# Altium footprint library PcbLib1.PcbLib: 38 footprints (part 1 of 3)
Each footprint in its own frame and in the unit in brackets; x right, y up, seen from the top. Pads: shape width x height; smd on the part's side, far side on the other; paste and mask are expansions set on the pad; w line width, h text height; cw(c..) or ccw(c..) is an arc to the next point about the centre after c.
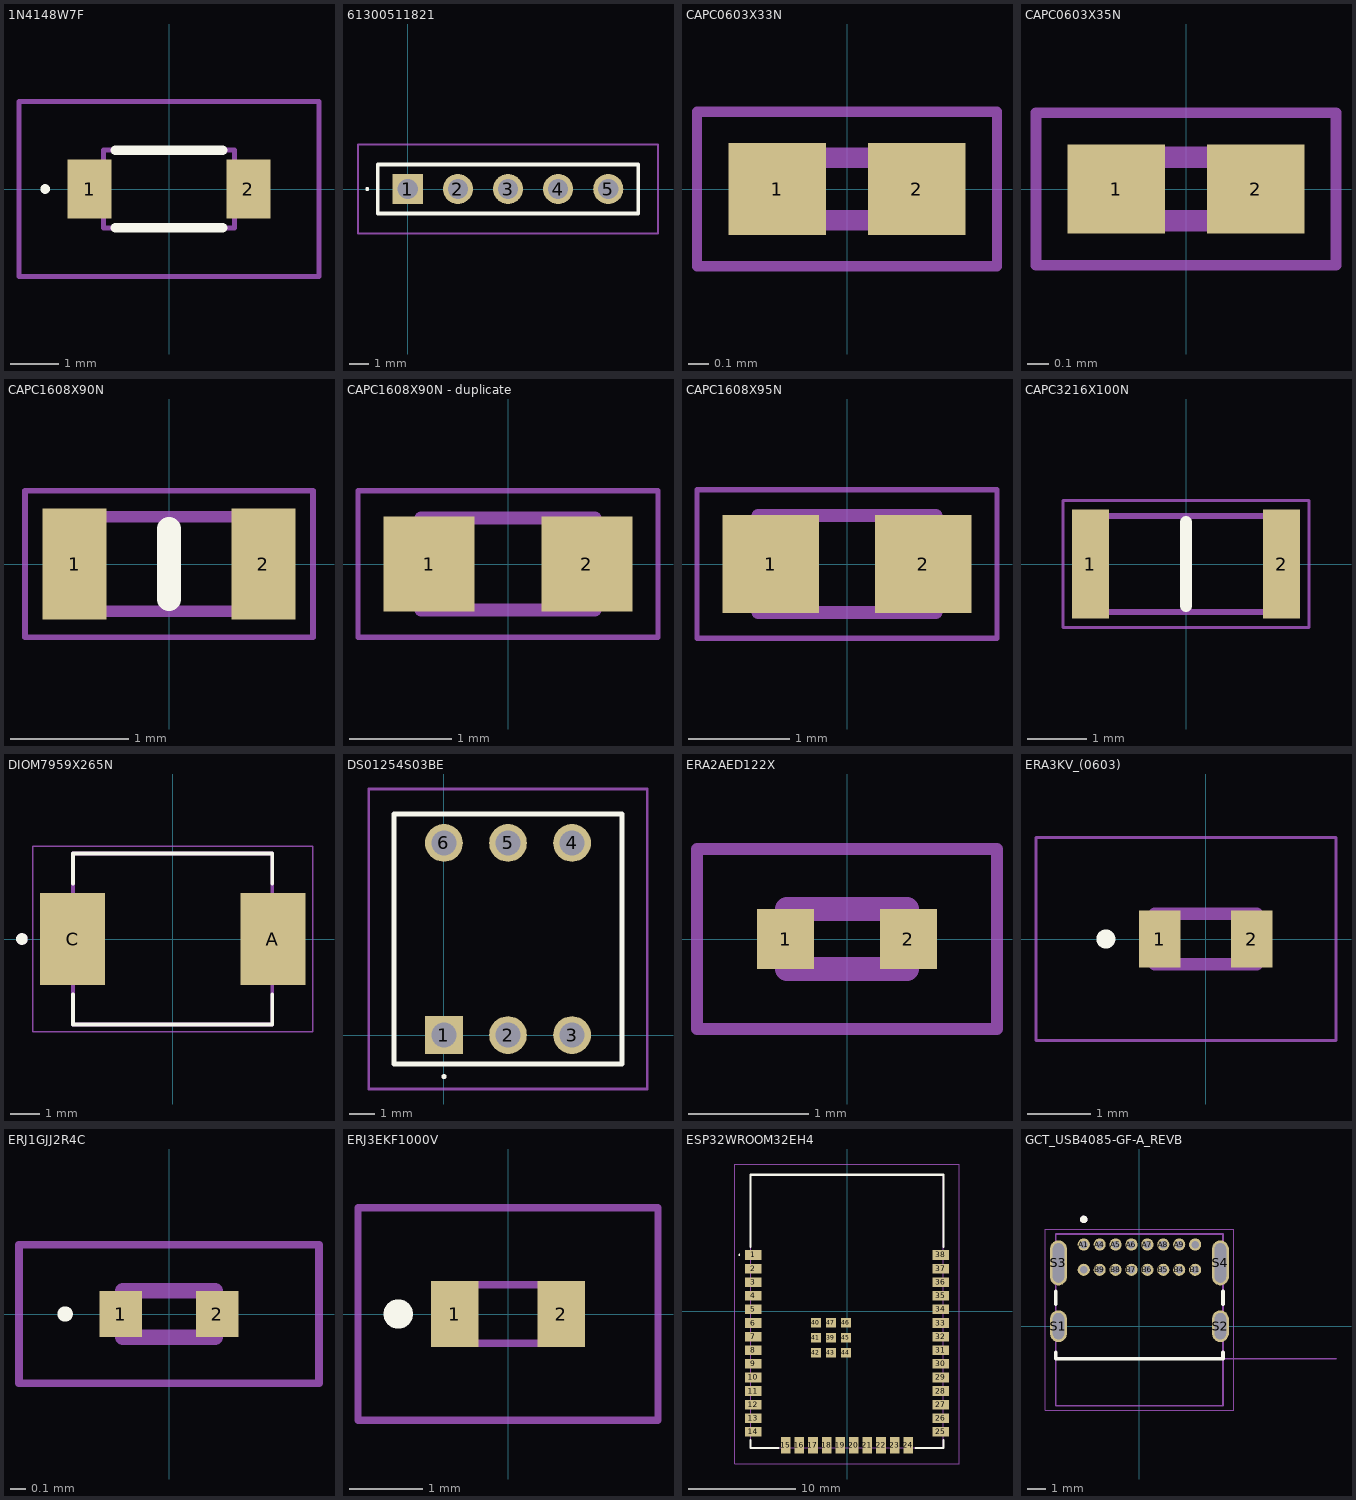
[diagram p0: the footprints below, top view; thin cyan lines are the x and y axes]

## 1N4148W7F [mm]
pads (2):
  rect 0.91x1.22 smd: 1(-1.635,0) 2(1.635,0)
Top Overlay:
  lines w0.1: -2.6,0 ccw(c-2.55,0) -2.5,0 ccw(c-2.55,0) -2.6,0
  lines w0.2: -1.1,-0.8 1.1,-0.8 ; -1.1,0.8 1.1,0.8
Mechanical 13:
  lines w0.1: -1.35,-0.8 1.35,-0.8 1.35,0.8 -1.35,0.8 -1.35,-0.8
Mechanical 15:
  lines w0.1: -3.09,-1.8 3.09,-1.8 3.09,1.8 -3.09,1.8 -3.09,-1.8
3D body "1N4148W-7-F.stp": height 1.35, standoff 0, extent -1.999,-0.8 1.999,0.8

## 61300511821 [mm]
pads (5):
  rect 1.53x1.53 hole 1.02: 1(0,0)
  round 1.53 hole 1.02: 2(2.54,0) 3(5.08,0) 4(7.62,0) 5(10.16,0)
Top Overlay:
  lines w0.1: -2.1,0 ccw(c-2.05,0) -2,0 ; -2.1,0 cw(c-2.05,0) -2,0 ; -2.1,0 ccw(c-2.05,0) -2,0
  lines w0.2: -1.52,-1.25 -1.52,1.25 11.68,1.25 11.68,-1.25 -1.52,-1.25
Mechanical 13:
  lines w0.1: -1.52,-1.25 -1.52,1.25 11.68,1.25 11.68,-1.25 -1.52,-1.25
Mechanical 15:
  lines w0.1: -2.52,-2.25 -2.52,2.25 12.68,2.25 12.68,-2.25 -2.52,-2.25
3D body "61300511821.stp": height 8.92, standoff -2.68, extent -1.52,-1.25 11.68,1.25

## CAPC0603X33N [mm]
pads (2):
  rect 0.47x0.44 smd: 1(-0.335,0) 2(0.335,0)
Mechanical 13:
  lines w0.1: -0.3,-0.15 -0.3,0.15 0.3,0.15 0.3,-0.15 -0.3,-0.15
Mechanical 15:
  lines w0.05: -0.72,-0.37 -0.72,0.37 0.72,0.37 0.72,-0.37 -0.72,-0.37
3D body "02015C471KAT2A.stp": height 0.33, standoff 0, extent -0.3,-0.15 0.3,0.15

## CAPC0603X35N [mm]
pads (2):
  rect 0.46x0.42 smd: 1(-0.33,0) 2(0.33,0)
Mechanical 13:
  lines w0.1: -0.3,-0.15 0.3,-0.15 0.3,0.15 -0.3,0.15 -0.3,-0.15
Mechanical 15:
  lines w0.05: -0.71,-0.36 0.71,-0.36 0.71,0.36 -0.71,0.36 -0.71,-0.36
3D body "CL03A225MO5C65C.stp": height 0.35, standoff 0, extent -0.3,-0.15 0.3,0.15

## CAPC1608X90N [mm]
pads (2):
  rect 0.54x0.94 smd: 1(-0.8,0) 2(0.8,0)
Top Overlay:
  lines w0.2: 0,-0.3 0,0.3
Mechanical 13:
  lines w0.1: -0.8,-0.4 0.8,-0.4 0.8,0.4 -0.8,0.4 -0.8,-0.4
Mechanical 15:
  lines w0.05: -1.22,-0.62 1.22,-0.62 1.22,0.62 -1.22,0.62 -1.22,-0.62
3D body "CGA3EDX7T1A106M080AU.stp": height 0.9, standoff 0, extent -0.8,-0.4 0.8,0.4

## CAPC1608X90N - duplicate [mm]
pads (2):
  rect 0.89x0.93 smd: 1(-0.77,0) 2(0.77,0)
Mechanical 13:
  lines w0.127: -0.85,-0.45 0.85,-0.45 0.85,0.45 -0.85,0.45 -0.85,-0.45
Mechanical 15:
  lines w0.05: -1.465,-0.715 1.465,-0.715 1.465,0.715 -1.465,0.715 -1.465,-0.715
3D body "step_temp.STEP": height 0.9, standoff 0, extent -0.8,-0.4 0.8,0.4

## CAPC1608X95N [mm]
pads (2):
  rect 0.96x0.97 smd: 1(-0.755,0) 2(0.755,0)
Mechanical 13:
  lines w0.127: -0.88,-0.48 -0.88,0.48 0.88,0.48 0.88,-0.48 -0.88,-0.48
Mechanical 15:
  lines w0.05: -1.485,-0.735 -1.485,0.735 1.485,0.735 1.485,-0.735 -1.485,-0.735
3D body "step_temp.STEP": height 0.95, standoff 0, extent -0.8,-0.4 0.8,0.4

## CAPC3216X100N [mm]
pads (2):
  rect 0.62x1.82 smd: 1(-1.6,0) 2(1.6,0)
Top Overlay:
  lines w0.2: 0,-0.7 0,0.7
Mechanical 13:
  lines w0.1: -1.6,-0.8 -1.6,0.8 1.6,0.8 1.6,-0.8 -1.6,-0.8
Mechanical 15:
  lines w0.05: -2.06,-1.06 -2.06,1.06 2.06,1.06 2.06,-1.06 -2.06,-1.06
3D body "C3216C0G2J471G085AA.stp": height 1.6, standoff 0, extent -1.6,-0.8 1.6,0.8

## DIOM7959X265N [mm]
height 2.65
pads (2):
  rect 2.25x3.18 smd: A(3.455,0) C(-3.455,0)
Top Overlay:
  circle w0.2: c-5.2,0 r0.1
  lines w0.127: -3.437,-1.91 -3.437,-2.95 3.437,-2.95 3.437,-1.91 ; -3.437,1.91 -3.437,2.95 3.437,2.95 3.437,1.91
Mechanical 13:
  circle w0.2: c-5.2,0 r0.1
  lines w0.127: -3.437,-2.95 -3.437,2.95 3.437,2.95 3.437,-2.95 -3.437,-2.95
Mechanical 15:
  lines w0.05: -4.83,-3.2 4.83,-3.2 4.83,3.2 -4.83,3.2 -4.83,-3.2
3D body "step_temp.STEP": height 2.65, standoff 0, extent -3.975,-2.95 3.975,2.95

## DS01254S03BE [mm]
pads (6):
  rect 1.5x1.5 hole 1: 1(0,0)
  round 1.5 hole 1: 2(2.54,0) 3(5.08,0) 4(5.08,7.62) 5(2.54,7.62) 6(0,7.62)
Top Overlay:
  lines w0.1: 0,-1.7 ccw(c0,-1.65) 0,-1.6 ccw(c0,-1.65) 0,-1.7
  lines w0.2: -1.98,-1.14 -1.98,8.76 7.06,8.76 7.06,-1.14 -1.98,-1.14
Mechanical 13:
  lines w0.1: -1.98,-1.14 -1.98,8.76 7.06,8.76 7.06,-1.14 -1.98,-1.14
Mechanical 15:
  lines w0.1: -2.98,-2.14 -2.98,9.76 8.06,9.76 8.06,-2.14 -2.98,-2.14
3D body "DS01-254-S-03BE.stp": height 6.65, standoff -2.85, extent -2.56,-0.71 7.64,8.33

## ERA2AED122X [mm]
pads (2):
  rect 0.475x0.5 smd: 1(-0.512,0) 2(0.512,0)
Mechanical 13:
  lines w0.2: -0.5,-0.25 0.5,-0.25 0.5,0.25 -0.5,0.25 -0.5,-0.25
Mechanical 15:
  lines w0.1: -1.25,-0.75 1.25,-0.75 1.25,0.75 -1.25,0.75 -1.25,-0.75
3D body "ERA-2ARC102X.stp": height 0.35, standoff 0, extent -0.5,-0.25 0.5,0.25

## ERA3KV_(0603) [mm]
pads (2):
  rect 0.65x0.9 smd: 1(-0.725,0) 2(0.725,0)
Top Overlay:
  circle w0.2: c-1.575,0 r0.05
Mechanical 13:
  lines w0.2: -0.8,-0.4 0.8,-0.4 0.8,0.4 -0.8,0.4 -0.8,-0.4
Mechanical 15:
  lines w0.05: -2.675,-1.6 2.05,-1.6 2.05,1.6 -2.675,1.6 -2.675,-1.6
3D body "ERA-3VEB5101V.stp": height 0.46, standoff 0, extent -0.8,-0.4 0.8,0.4

## ERJ1GJJ2R4C [mm]
pads (2):
  rect 0.275x0.3 smd: 1(-0.313,0) 2(0.313,0)
Top Overlay:
  lines w0.05: -0.675,-0.025 cw(c-0.675,0) -0.675,0.025 cw(c-0.675,0) -0.675,-0.025
Mechanical 13:
  lines w0.1: -0.3,-0.15 0.3,-0.15 0.3,0.15 -0.3,0.15 -0.3,-0.15
Mechanical 15:
  lines w0.05: -0.975,-0.45 0.975,-0.45 0.975,0.45 -0.975,0.45 -0.975,-0.45
3D body "ERJ-1GJF4700C.stp": height 0.23, standoff 0, extent -0.3,-0.15 0.3,0.15

## ERJ3EKF1000V [mm]
pads (2):
  rect 0.65x0.9 smd: 1(-0.725,0) 2(0.725,0)
Top Overlay:
  lines w0.2: -1.5,-0.1 ccw(c-1.5,0) -1.5,0.1 ccw(c-1.5,0) -1.5,-0.1
Mechanical 13:
  lines w0.1: -0.8,-0.4 -0.8,0.4 0.8,0.4 0.8,-0.4 -0.8,-0.4
Mechanical 15:
  lines w0.1: -2.05,-1.45 -2.05,1.45 2.05,1.45 2.05,-1.45 -2.05,-1.45
3D body "ERJ-3GEYJ122V.stp": height 0.45, standoff 0, extent -0.8,-0.4 0.8,0.4

## ESP32WROOM32EH4 [mm]
pads (47):
  rect 1.5x0.9 smd: 1(-8.75,5.26) 2(-8.75,3.99) 3(-8.75,2.72) 4(-8.75,1.45) 5(-8.75,0.18) 6(-8.75,-1.09) 7(-8.75,-2.36) 8(-8.75,-3.63) 9(-8.75,-4.9) 10(-8.75,-6.17) 11(-8.75,-7.44) 12(-8.75,-8.71) 13(-8.75,-9.98) 14(-8.75,-11.25) 25(8.75,-11.25) 26(8.75,-9.98) 27(8.75,-8.71) 28(8.75,-7.44) 29(8.75,-6.17) 30(8.75,-4.9) 31(8.75,-3.63) 32(8.75,-2.36) 33(8.75,-1.09) 34(8.75,0.18) 35(8.75,1.45) 36(8.75,2.72) 37(8.75,3.99) 38(8.75,5.26)
  rect 0.9x1.5 smd: 15(-5.715,-12.5) 16(-4.445,-12.5) 17(-3.175,-12.5) 18(-1.905,-12.5) 19(-0.635,-12.5) 20(0.635,-12.5) 21(1.905,-12.5) 22(3.175,-12.5) 23(4.445,-12.5) 24(5.715,-12.5)
  rect 0.9x0.9 smd: 39(-1.5,-2.46) 40(-2.9,-1.06) 41(-2.9,-2.46) 42(-2.9,-3.86) 43(-1.5,-3.86) 44(-0.1,-3.86) 45(-0.1,-2.46) 46(-0.1,-1.06) 47(-1.5,-1.06)
Top Overlay:
  lines w0.1: -10.1,5.26 cw(c-10.05,5.26) -10,5.26 cw(c-10.05,5.26) -10.1,5.26
  lines w0.2: -9,-12 -9,-12.75 -6.4,-12.75 ; -9,6 -9,12.75 9,12.75 9,6 ; 6.4,-12.75 9,-12.75 9,-12
Mechanical 13:
  lines w0.1: -9,-12.75 -9,12.75 9,12.75 9,-12.75 -9,-12.75
Mechanical 15:
  lines w0.1: -10.5,-14.25 -10.5,13.75 10.5,13.75 10.5,-14.25 -10.5,-14.25
3D body "ESP32-WROOM-32E-H4.stp": height 3.25, standoff 0, extent -9,-12.75 9,12.75

## GCT_USB4085-GF-A_REVB [mm]
height 3.16
pads (20):
  round 0.65 hole 0.4: A1(-2.975,4.36) A4(-2.125,4.36) A5(-1.275,4.36) A6(-0.425,4.36) A7(0.425,4.36) A8(1.275,4.36) A9(2.125,4.36) A12(2.975,4.36) B1(2.975,3.01) B4(2.125,3.01) B5(1.275,3.01) B6(0.425,3.01) B7(-0.425,3.01) B8(-1.275,3.01) B9(-2.125,3.01) B12(-2.975,3.01)
  oval 0.9x1.7 hole 0.6 slot 1.4 at 90 deg: S1(-4.325,0) S2(4.325,0)
  oval 0.9x2.4 hole 0.6 slot 2.1 at 90 deg: S3(-4.325,3.38) S4(4.325,3.38)
Top Overlay:
  circle w0.2: c-2.975,5.7 r0.1
  lines w0.2: -4.47,-1.39 -4.47,-1.74 4.47,-1.74 4.47,-1.39 ; -4.47,1.17 -4.47,1.85 ; 4.47,1.17 4.47,1.85
Mechanical 13:
  circle w0.2: c-2.975,5.7 r0.1
  lines w0.1: 10.5,-1.74 -4.47,-1.74 ; -4.47,-1.74 -4.47,4.92 4.47,4.92 4.47,-4.25 -4.47,-4.25 -4.47,-1.74
  text "PCB EDGE" at 5.315,-1.57 h0.81
Mechanical 15:
  lines w0.05: -5.025,-4.5 -5.025,5.17 5.025,5.17 5.025,-4.5 -5.025,-4.5
3D body "step_temp.STEP": height 3.46, standoff -2.1, extent -4.47,-4.25 4.47,4.92